# Altium footprint library 按键.PcbLib: 69 footprints (part 3 of 5)
Each footprint in its own frame and in the unit in brackets; x right, y up, seen from the top. Pads: shape width x height; smd on the part's side, far side on the other; paste and mask are expansions set on the pad; w line width, h text height; cw(c..) or ccw(c..) is an arc to the next point about the centre after c.
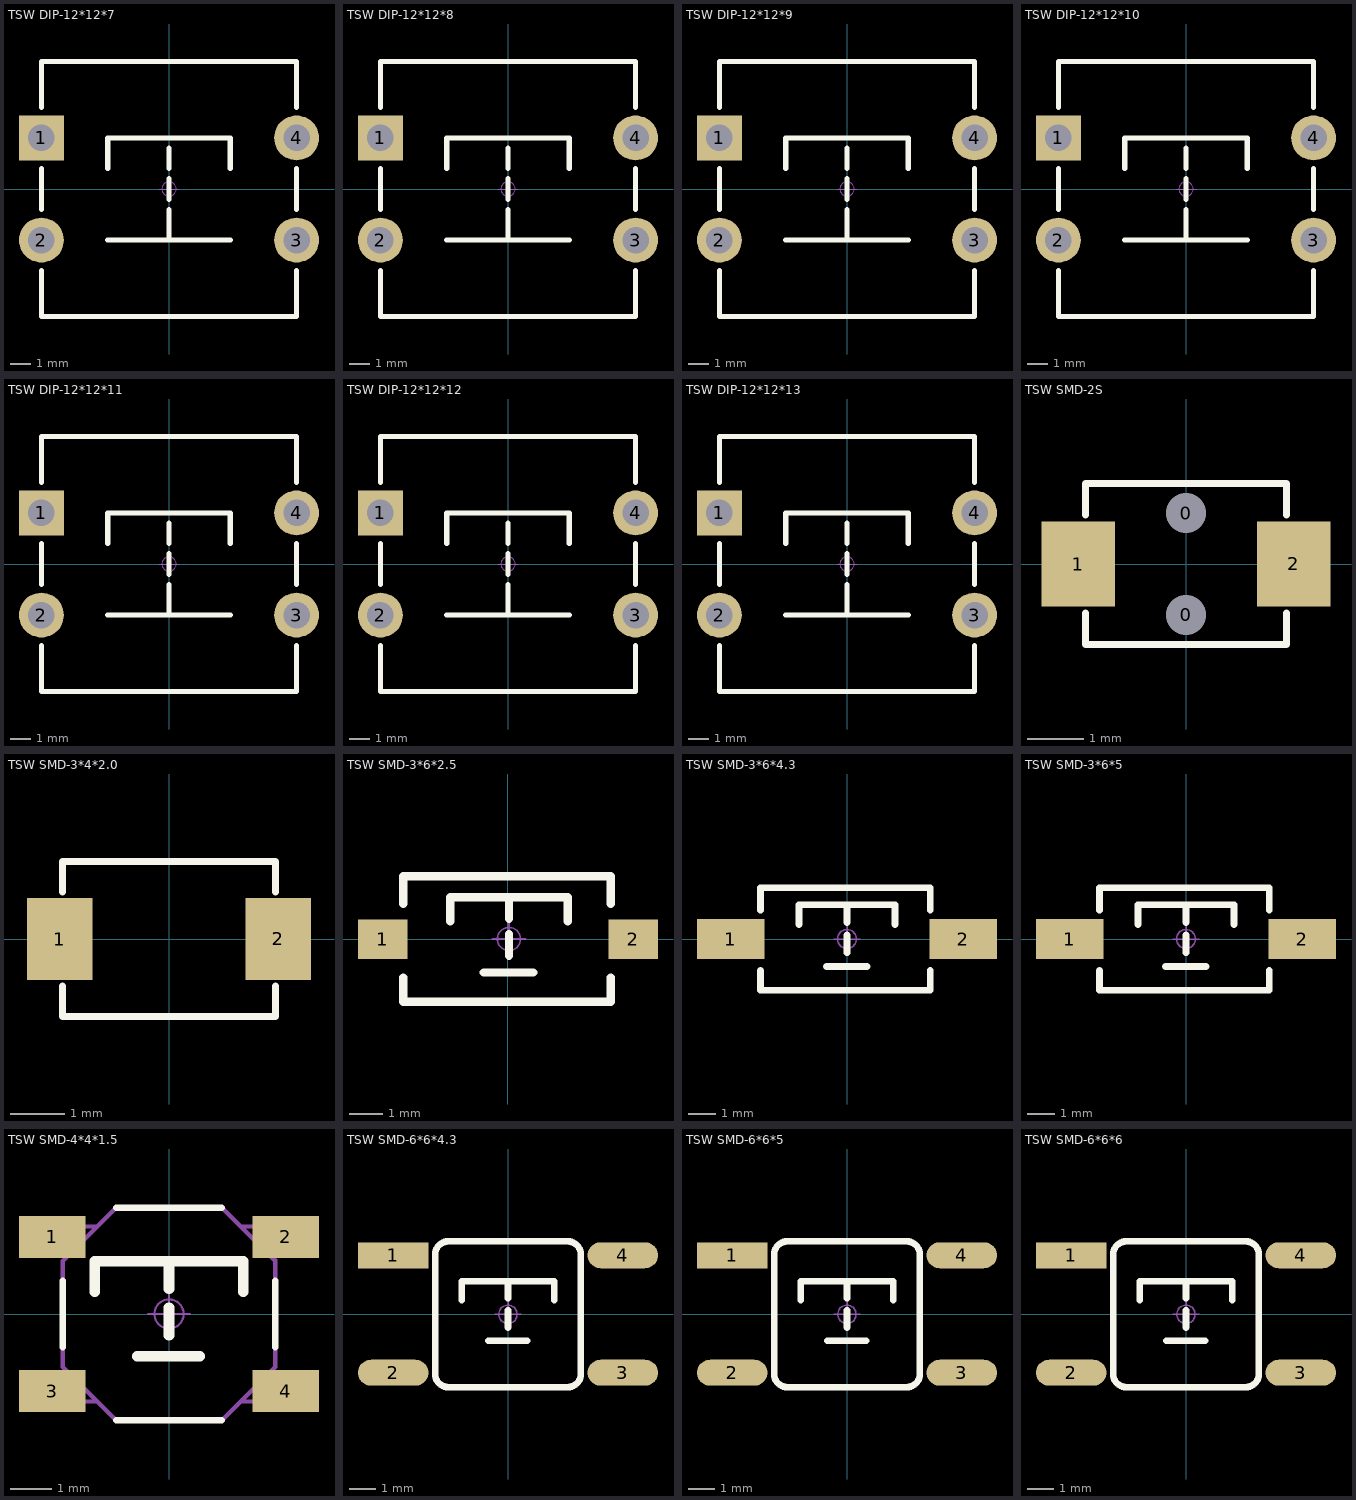
[diagram p2: the footprints below, top view; thin cyan lines are the x and y axes]

## TSW DIP-12*12*7 [mm] "12*12*7mm"
pads (4):
  rect 2.2x2.2 hole 1.3: 1(-6.25,2.5)
  round 2.2 hole 1.3: 2(-6.25,-2.5) 3(6.25,-2.5) 4(6.25,2.5)
Top Overlay:
  lines w0.254: -6.25,-4 -6.25,-6.25 6.25,-6.25 6.25,-4 ; -6.25,-1 -6.25,1 ; -6.25,4 -6.25,6.25 6.25,6.25 6.25,4 ; -3,-2.5 3,-2.5 ; -3,1 -3,2.5 3,2.5 3,1 ; 0,-2.5 0,-1 ; 0,-0.5 0,0.5 ; 0,1 0,2 ; 6.25,-1 6.25,1
Bottom Overlay:
  lines w0.254: -4.826,-2.54 4.826,-2.54 ; -4.826,2.54 4.826,2.54
Mechanical 15:
  circle w0.05: c0,0 r0.35
  lines w0.05: -0.5,0 0.5,0 ; 0,-0.5 0,0.5
3D body "TSW DIP-12x12x7.STEP": height 7.15, standoff -3.35, extent -6.898,-6 6.898,6

## TSW DIP-12*12*8 [mm] "12*12*8mm"
pads (4):
  rect 2.2x2.2 hole 1.3: 1(-6.25,2.5)
  round 2.2 hole 1.3: 2(-6.25,-2.5) 3(6.25,-2.5) 4(6.25,2.5)
Top Overlay:
  lines w0.254: -6.25,-4 -6.25,-6.25 6.25,-6.25 6.25,-4 ; -6.25,-1 -6.25,1 ; -6.25,4 -6.25,6.25 6.25,6.25 6.25,4 ; -3,-2.5 3,-2.5 ; -3,1 -3,2.5 3,2.5 3,1 ; 0,-2.5 0,-1 ; 0,-0.5 0,0.5 ; 0,1 0,2 ; 6.25,-1 6.25,1
Bottom Overlay:
  lines w0.254: -4.826,-2.54 4.826,-2.54 ; -4.826,2.54 4.826,2.54
Mechanical 15:
  circle w0.05: c0,0 r0.35
  lines w0.05: -0.5,0 0.5,0 ; 0,-0.5 0,0.5
3D body "TSW DIP-12x12x8.STEP": height 8.15, standoff -3.35, extent -6.898,-6 6.898,6

## TSW DIP-12*12*9 [mm] "12*12*9mm"
pads (4):
  rect 2.2x2.2 hole 1.3: 1(-6.25,2.5)
  round 2.2 hole 1.3: 2(-6.25,-2.5) 3(6.25,-2.5) 4(6.25,2.5)
Top Overlay:
  lines w0.254: -6.25,-4 -6.25,-6.25 6.25,-6.25 6.25,-4 ; -6.25,-1 -6.25,1 ; -6.25,4 -6.25,6.25 6.25,6.25 6.25,4 ; -3,-2.5 3,-2.5 ; -3,1 -3,2.5 3,2.5 3,1 ; 0,-2.5 0,-1 ; 0,-0.5 0,0.5 ; 0,1 0,2 ; 6.25,-1 6.25,1
Bottom Overlay:
  lines w0.254: -4.826,-2.54 4.826,-2.54 ; -4.826,2.54 4.826,2.54
Mechanical 15:
  circle w0.05: c0,0 r0.35
  lines w0.05: -0.5,0 0.5,0 ; 0,-0.5 0,0.5
3D body "TSW DIP-12x12x9.STEP": height 9.15, standoff -3.35, extent -6.898,-6 6.898,6

## TSW DIP-12*12*10 [mm] "12*12*10mm"
pads (4):
  rect 2.2x2.2 hole 1.3: 1(-6.25,2.5)
  round 2.2 hole 1.3: 2(-6.25,-2.5) 3(6.25,-2.5) 4(6.25,2.5)
Top Overlay:
  lines w0.254: -6.25,-4 -6.25,-6.25 6.25,-6.25 6.25,-4 ; -6.25,-1 -6.25,1 ; -6.25,4 -6.25,6.25 6.25,6.25 6.25,4 ; -3,-2.5 3,-2.5 ; -3,1 -3,2.5 3,2.5 3,1 ; 0,-2.5 0,-1 ; 0,-0.5 0,0.5 ; 0,1 0,2 ; 6.25,-1 6.25,1
Bottom Overlay:
  lines w0.254: -4.826,-2.54 4.826,-2.54 ; -4.826,2.54 4.826,2.54
Mechanical 15:
  circle w0.05: c0,0 r0.35
  lines w0.05: -0.5,0 0.5,0 ; 0,-0.5 0,0.5
3D body "TSW DIP-12x12x10.STEP": height 10.15, standoff -3.35, extent -6.898,-6 6.898,6

## TSW DIP-12*12*11 [mm] "12*12*11mm"
pads (4):
  rect 2.2x2.2 hole 1.3: 1(-6.25,2.5)
  round 2.2 hole 1.3: 2(-6.25,-2.5) 3(6.25,-2.5) 4(6.25,2.5)
Top Overlay:
  lines w0.254: -6.25,-4 -6.25,-6.25 6.25,-6.25 6.25,-4 ; -6.25,-1 -6.25,1 ; -6.25,4 -6.25,6.25 6.25,6.25 6.25,4 ; -3,-2.5 3,-2.5 ; -3,1 -3,2.5 3,2.5 3,1 ; 0,-2.5 0,-1 ; 0,-0.5 0,0.5 ; 0,1 0,2 ; 6.25,-1 6.25,1
Bottom Overlay:
  lines w0.254: -4.826,-2.54 4.826,-2.54 ; -4.826,2.54 4.826,2.54
Mechanical 15:
  circle w0.05: c0,0 r0.35
  lines w0.05: -0.5,0 0.5,0 ; 0,-0.5 0,0.5
3D body "TSW DIP-12x12x11.STEP": height 11.15, standoff -3.35, extent -6.898,-6 6.898,6

## TSW DIP-12*12*12 [mm] "12*12*12mm"
pads (4):
  rect 2.2x2.2 hole 1.3: 1(-6.25,2.5)
  round 2.2 hole 1.3: 2(-6.25,-2.5) 3(6.25,-2.5) 4(6.25,2.5)
Top Overlay:
  lines w0.254: -6.25,-4 -6.25,-6.25 6.25,-6.25 6.25,-4 ; -6.25,-1 -6.25,1 ; -6.25,4 -6.25,6.25 6.25,6.25 6.25,4 ; -3,-2.5 3,-2.5 ; -3,1 -3,2.5 3,2.5 3,1 ; 0,-2.5 0,-1 ; 0,-0.5 0,0.5 ; 0,1 0,2 ; 6.25,-1 6.25,1
Bottom Overlay:
  lines w0.254: -4.826,-2.54 4.826,-2.54 ; -4.826,2.54 4.826,2.54
Mechanical 15:
  circle w0.05: c0,0 r0.35
  lines w0.05: -0.5,0 0.5,0 ; 0,-0.5 0,0.5
3D body "TSW DIP-12x12x12.STEP": height 12.15, standoff -3.35, extent -6.898,-6 6.898,6

## TSW DIP-12*12*13 [mm] "12*12*13mm"
pads (4):
  rect 2.2x2.2 hole 1.3: 1(-6.25,2.5)
  round 2.2 hole 1.3: 2(-6.25,-2.5) 3(6.25,-2.5) 4(6.25,2.5)
Top Overlay:
  lines w0.254: -6.25,-4 -6.25,-6.25 6.25,-6.25 6.25,-4 ; -6.25,-1 -6.25,1 ; -6.25,4 -6.25,6.25 6.25,6.25 6.25,4 ; -3,-2.5 3,-2.5 ; -3,1 -3,2.5 3,2.5 3,1 ; 0,-2.5 0,-1 ; 0,-0.5 0,0.5 ; 0,1 0,2 ; 6.25,-1 6.25,1
Bottom Overlay:
  lines w0.254: -4.826,-2.54 4.826,-2.54 ; -4.826,2.54 4.826,2.54
Mechanical 15:
  circle w0.05: c0,0 r0.35
  lines w0.05: -0.5,0 0.5,0 ; 0,-0.5 0,0.5
3D body "TSW DIP-12x12x13.STEP": height 13.15, standoff -3.35, extent -6.898,-6 6.898,6

## TSW SMD-2S [mm]
pads (4):
  round 0.7 hole 0.7 unplated mask+0.051: 0(0,-0.9) 0(0,0.9)
  rect 1.3x1.5 smd: 1(-1.9,0) 2(1.9,0)
Top Overlay:
  lines w0.127: -1.778,-0.864 -1.778,-1.422 1.778,-1.422 1.778,-0.864 ; -1.778,0.864 -1.778,1.422 1.778,1.422 1.778,0.864

## TSW SMD-3*4*2.0 [mm] "贴片按键 2脚 3*4*2.0"
pads (2):
  rect 1.2x1.5 smd: 1(-2,0) 2(2,0)
Top Overlay:
  lines w0.127: -1.95,-0.864 -1.95,-1.422 1.95,-1.422 1.95,-0.864 ; -1.95,0.864 -1.95,1.422 1.95,1.422 1.95,0.864

## TSW SMD-3*6*2.5 [mm] "3*6*2.5mm"
pads (2):
  rect 1.5x1.2 smd: 1(-3.8,0) 2(3.8,0)
Top Overlay:
  lines w0.254: -3.182,-1.158 -3.182,-1.89 3.118,-1.89 3.118,-1.158 ; -3.182,1.077 -3.182,1.91 3.118,1.91 3.118,1.077 ; -1.749,0.543 -1.749,1.28 1.807,1.28 1.807,0.543 ; -0.733,-1.006 0.766,-1.006 ; 0.029,-0.498 0.029,0.162 ; 0.029,0.62 0.029,1.28
Mechanical 15:
  circle w0.05: c0.029,0.01 r0.35
  lines w0.05: -0.471,0.01 0.529,0.01 ; 0.029,-0.49 0.029,0.51
3D body "TSW SMD-3x6x2.5.STEP": height 2.59, standoff -0.03, extent -3.971,-1.74 4.029,1.76

## TSW SMD-3*6*4.3 [mm] "3*6*4.3mm"
pads (2):
  rect 2.5x1.5 smd: 1(-4.318,0) 2(4.318,0)
Top Overlay:
  lines w0.254: -3.212,-1.168 -3.212,-1.9 3.088,-1.9 3.088,-1.168 ; -3.212,1.067 -3.212,1.9 3.088,1.9 3.088,1.067 ; -1.778,0.533 -1.778,1.27 1.778,1.27 1.778,0.533 ; -0.762,-1.016 0.737,-1.016 ; 0,-0.508 0,0.152 ; 0,0.61 0,1.27
Mechanical 15:
  circle w0.05: c0,0 r0.35
  lines w0.05: -0.5,0 0.5,0 ; 0,-0.5 0,0.5
3D body "TSW SMD-3x6x4.3.STEP": height 4.4, standoff -0.03, extent -4.6,-1.75 4.6,1.75

## TSW SMD-3*6*5 [mm] "3*6*5mm"
pads (2):
  rect 2.5x1.5 smd: 1(-4.318,0) 2(4.318,0)
Top Overlay:
  lines w0.254: -3.212,-1.168 -3.212,-1.9 3.088,-1.9 3.088,-1.168 ; -3.212,1.067 -3.212,1.9 3.088,1.9 3.088,1.067 ; -1.778,0.533 -1.778,1.27 1.778,1.27 1.778,0.533 ; -0.762,-1.016 0.737,-1.016 ; 0,-0.508 0,0.152 ; 0,0.61 0,1.27
Mechanical 15:
  circle w0.05: c0,0 r0.35
  lines w0.05: -0.5,0 0.5,0 ; 0,-0.5 0,0.5
3D body "TSW SMD-3x6x5.STEP": height 5.1, standoff -0.03, extent -4.6,-1.75 4.6,1.75

## TSW SMD-4*4*1.5 [mm] "轻触开关，长宽高：4*4*1.5mm"
height 1.5
pads (4):
  rect 1.6x1 smd: 1(-2.8,1.85) 2(2.8,1.85) 3(-2.8,-1.85) 4(2.8,-1.85)
Top Overlay:
  lines w0.152: -2.55,-0.8 -2.55,0.8 ; -1.27,-2.55 1.27,-2.55 ; -1.27,2.55 1.27,2.55 ; 2.55,-0.8 2.55,0.8
  lines w0.254: -1.778,0.533 -1.778,1.27 1.778,1.27 1.778,0.533 ; -0.762,-1.016 0.737,-1.016 ; 0,-0.508 0,0.152 ; 0,0.61 0,1.27
Mechanical 15:
  circle w0.05: c0,0 r0.35
  lines w0.05: -0.5,0 0.5,0 ; 0,-0.5 0,0.5
  lines w0.1: -2.221,-1.6 -3.2,-1.6 -3.2,-2.1 -1.719,-2.1 ; -2.221,1.6 -3.2,1.6 -3.2,2.1 -1.719,2.1 ; 1.719,-2.1 3.2,-2.1 3.2,-1.6 2.221,-1.6 ; 1.719,2.1 3.2,2.1 3.2,1.6 2.221,1.6 ; 2.55,1.27 1.27,2.55 -1.27,2.55 -2.55,1.27 -2.55,-1.27 -1.27,-2.55 1.27,-2.55 2.55,-1.27 2.55,1.295
3D body "ts44h.stp": height 1.5, standoff 0, extent -3.204,-2.6 3.196,2.6

## TSW SMD-6*6*4.3 [mm] "6*6*4.3mm"
pads (4):
  rect 2.7x1 smd: 1(-4.4,2.261)
  oval 2.7x1 smd: 2(-4.4,-2.239) 3(4.4,-2.239) 4(4.4,2.261)
Top Overlay:
  lines w0.254: -1.778,0.533 -1.778,1.27 1.778,1.27 1.778,0.533 ; -0.762,-1.016 0.737,-1.016 ; 0,-0.508 0,0.152 ; 0,0.61 0,1.27 ; -2.794,-2.286 ccw(c-2.286,-2.286) -2.286,-2.794 2.286,-2.794 ccw(c2.286,-2.286) 2.794,-2.286 2.794,2.286 ccw(c2.286,2.286) 2.286,2.794 -2.286,2.794 ccw(c-2.286,2.286) -2.794,2.286 -2.794,-2.286
Mechanical 15:
  circle w0.05: c0,0 r0.35
  lines w0.05: -0.5,0 0.5,0 ; 0,-0.5 0,0.5
3D body "TSW SMD-6x6x4.3.STEP": height 4.25, standoff 0.05, extent -4.5,-3 4.5,3

## TSW SMD-6*6*5 [mm] "6*6*5mm"
pads (4):
  rect 2.7x1 smd: 1(-4.4,2.261)
  oval 2.7x1 smd: 2(-4.4,-2.239) 3(4.4,-2.239) 4(4.4,2.261)
Top Overlay:
  lines w0.254: -1.778,0.533 -1.778,1.27 1.778,1.27 1.778,0.533 ; -0.762,-1.016 0.737,-1.016 ; 0,-0.508 0,0.152 ; 0,0.61 0,1.27 ; -2.794,-2.286 ccw(c-2.286,-2.286) -2.286,-2.794 2.286,-2.794 ccw(c2.286,-2.286) 2.794,-2.286 2.794,2.286 ccw(c2.286,2.286) 2.286,2.794 -2.286,2.794 ccw(c-2.286,2.286) -2.794,2.286 -2.794,-2.286
Mechanical 15:
  circle w0.05: c0,0 r0.35
  lines w0.05: -0.5,0 0.5,0 ; 0,-0.5 0,0.5
3D body "TSW SMD-6x6x5.STEP": height 4.95, standoff -0.03, extent -4.5,-3 4.5,3

## TSW SMD-6*6*6 [mm] "6*6*6mm"
pads (4):
  rect 2.7x1 smd: 1(-4.4,2.261)
  oval 2.7x1 smd: 2(-4.4,-2.239) 3(4.4,-2.239) 4(4.4,2.261)
Top Overlay:
  lines w0.254: -1.778,0.533 -1.778,1.27 1.778,1.27 1.778,0.533 ; -0.762,-1.016 0.737,-1.016 ; 0,-0.508 0,0.152 ; 0,0.61 0,1.27 ; -2.794,-2.286 ccw(c-2.286,-2.286) -2.286,-2.794 2.286,-2.794 ccw(c2.286,-2.286) 2.794,-2.286 2.794,2.286 ccw(c2.286,2.286) 2.286,2.794 -2.286,2.794 ccw(c-2.286,2.286) -2.794,2.286 -2.794,-2.286
Mechanical 15:
  circle w0.05: c0,0 r0.35
  lines w0.05: -0.5,0 0.5,0 ; 0,-0.5 0,0.5
3D body "TSW SMD-6x6x6.STEP": height 5.95, standoff -0.03, extent -4.5,-3 4.5,3